# EAGLE library part PE4312C-Z (library PE4312C-Z)
RF ATTENUATOR 31.5DB 50OHM 20QFN Source: Datasheet <https://www.psemi.com/pdf/datasheets/pe4312ds.pdf>
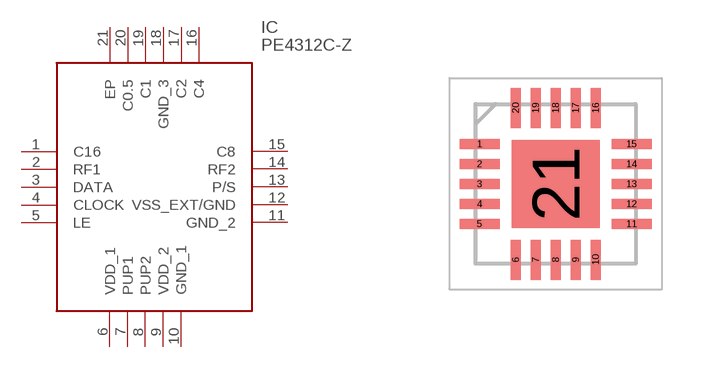
[diagram p0: symbol with the pads of QFN50P400X400X90-21N; footprint QFN50P400X400X90-21N]

Designator prefix IC

## PE4312C-Z (Description: RF ATTENUATOR 31.5DB 50OHM 20QFN; Height: 0.9mm; Manufacturer_Name: Peregrine Semiconductor; Manufacturer_Part_Number: PE4312C-Z; Mouser_Part_Number: 81-PE4312C-Z; Mouser_Price-Stock: https://www.mouser.co.uk/ProductDetail/pSemi/PE4312C-Z?qs=l7cgNqFNU1hgFbGgRtu7ww%3D%3D)  [QFN50P400X400X90-21N]
1  C16
2  RF1
3  DATA
4  CLOCK
5  LE
6  VDD_1
7  PUP1
8  PUP2
9  VDD_2
10  GND_1
11  GND_2
12  VSS_EXT/GND
13  P/S
14  RF2
15  C8
16  C4
17  C2
18  GND_3
19  C1
20  C0.5
21  EP

## Footprint QFN50P400X400X90-21N (pad centres in mm)
Green 20-lead 4 × 4 mm QFN
smd 1 x 0.25: 1 -1.9,1; 2 -1.9,0.5; 3 -1.9,0; 4 -1.9,-0.5; 5 -1.9,-1; 11 1.9,-1; 12 1.9,-0.5; 13 1.9,0; 14 1.9,0.5; 15 1.9,1
smd 0.25 x 1: 6 -1,-1.9; 7 -0.5,-1.9; 8 0,-1.9; 9 0.5,-1.9; 10 1,-1.9; 16 1,1.9; 17 0.5,1.9; 18 0,1.9; 19 -0.5,1.9; 20 -1,1.9
smd 2.2 x 2.2: 21 0,0